# Altium footprint library BMxxB-PASS.PcbLib: 9 footprints
Each footprint in its own frame and in the unit in brackets; x right, y up, seen from the top. Pads: shape width x height; smd on the part's side, far side on the other; paste and mask are expansions set on the pad; w line width, h text height; cw(c..) or ccw(c..) is an arc to the next point about the centre after c.
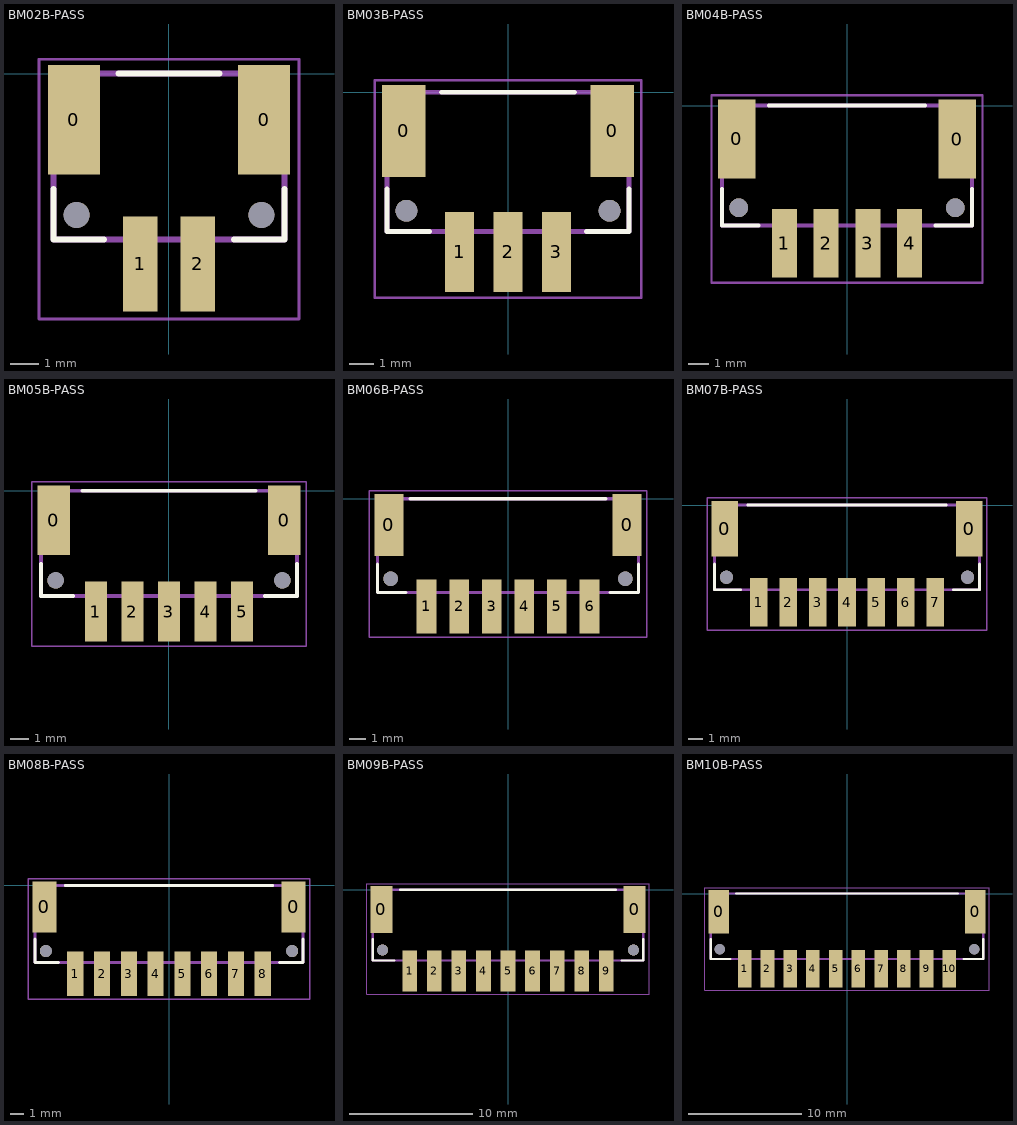
[diagram p0: the footprints below, top view; thin cyan lines are the x and y axes]

## BM02B-PASS [mm]
pads (6):
  rect 1.8x3.8 smd: 0(-3.3,-1.6) 0(3.3,-1.6)
  rect 1.2x3.3 smd: 1(-1,-6.6) 2(1,-6.6)
  round 0.9 hole 0.9: ""(-3.2,-4.9) ""(3.2,-4.9)
Top Overlay:
  lines w0.2: -4,-4 -4,-5.75 -2.25,-5.75 ; -1.75,0 1.75,0 ; 2.25,-5.75 4,-5.75 4,-4
Top Assy:
  lines w0.2: -4,-5.75 4,-5.75 4,0 -4,0 -4,-5.75
Border:
  lines w0.1: -4.5,-8.5 4.5,-8.5 4.5,0.5 -4.5,0.5 -4.5,-8.5
3D body "BM02B-PASS.stp": height 8.92, standoff -0.48, extent -4,-7.5 4,0.02

## BM03B-PASS [mm]
pads (7):
  rect 1.8x3.8 smd: 0(-4.3,-1.6) 0(4.3,-1.6)
  rect 1.2x3.3 smd: 1(-2,-6.6) 2(0,-6.6) 3(2,-6.6)
  round 0.9 hole 0.9 paste+0.9: ""(-4.2,-4.9) ""(4.2,-4.9)
Top Overlay:
  lines w0.2: -5,-4 -5,-5.75 -3.25,-5.75 ; -2.75,0 2.75,0 ; 3.25,-5.75 5,-5.75 5,-4
Top Assy:
  lines w0.2: -5,-5.75 -5,0 5,0 5,-5.75 -5,-5.75
Border:
  lines w0.1: -5.5,-8.5 -5.5,0.5 5.5,0.5 5.5,-8.5 -5.5,-8.5
3D body "BM03B-PASS.stp": height 8.92, standoff -0.48, extent -5,-7.5 5,0.02

## BM04B-PASS [mm]
pads (8):
  rect 1.8x3.8 smd: 0(-5.3,-1.6) 0(5.3,-1.6)
  rect 1.2x3.3 smd: 1(-3,-6.6) 2(-1,-6.6) 3(1,-6.6) 4(3,-6.6)
  round 0.9 hole 0.9: ""(-5.2,-4.9) ""(5.2,-4.9)
Top Overlay:
  lines w0.2: -6,-4 -6,-5.75 -4.25,-5.75 ; -3.75,0 3.75,0 ; 4.25,-5.75 6,-5.75 6,-4
Top Assy:
  lines w0.2: -6,-5.75 6,-5.75 6,0 -6,0 -6,-5.75
Border:
  lines w0.1: -6.5,-8.5 6.5,-8.5 6.5,0.5 -6.5,0.5 -6.5,-8.5
3D body "BM04B-PASS.stp": height 8.92, standoff -0.48, extent -6,-7.5 6,0.02

## BM05B-PASS [mm]
pads (9):
  rect 1.8x3.8 smd: 0(-6.3,-1.6) 0(6.3,-1.6)
  rect 1.2x3.3 smd: 1(-4,-6.6) 2(-2,-6.6) 3(0,-6.6) 4(2,-6.6) 5(4,-6.6)
  round 0.9 hole 0.9 paste+0.9: ""(-6.2,-4.9) ""(6.2,-4.9)
Top Overlay:
  lines w0.2: -7,-4 -7,-5.75 -5.25,-5.75 ; -4.75,0 4.75,0 ; 5.25,-5.75 7,-5.75 7,-4
Top Assy:
  lines w0.2: -7,-5.75 7,-5.75 7,0 -7,0 -7,-5.75
Border:
  lines w0.1: -7.5,-8.5 7.5,-8.5 7.5,0.5 -7.5,0.5 -7.5,-8.5
3D body "BM05B-PASS.stp": height 8.92, standoff -0.48, extent -7,-7.5 7,0.02

## BM06B-PASS [mm]
pads (10):
  rect 1.8x3.8 smd: 0(-7.3,-1.6) 0(7.3,-1.6)
  rect 1.2x3.3 smd: 1(-5,-6.6) 2(-3,-6.6) 3(-1,-6.6) 4(1,-6.6) 5(3,-6.6) 6(5,-6.6)
  round 0.9 hole 0.9: ""(-7.2,-4.9) ""(7.2,-4.9)
Top Overlay:
  lines w0.2: -8,-4 -8,-5.75 -6.25,-5.75 ; -6,0 6,0 ; 6.25,-5.75 8,-5.75 8,-4
Top Assy:
  lines w0.2: -8,-5.75 8,-5.75 8,0 -8,0 -8,-5.75
Border:
  lines w0.1: -8.5,-8.5 8.5,-8.5 8.5,0.5 -8.5,0.5 -8.5,-8.5
3D body "BM06B-PASS.stp": height 8.92, standoff -0.48, extent -8,-7.5 8,0.02

## BM07B-PASS [mm]
pads (11):
  rect 1.8x3.8 smd: 0(-8.3,-1.6) 0(8.3,-1.6)
  rect 1.2x3.3 smd: 1(-6,-6.6) 2(-4,-6.6) 3(-2,-6.6) 4(0,-6.6) 5(2,-6.6) 6(4,-6.6) 7(6,-6.6)
  round 0.9 hole 0.9 paste+0.9: ""(-8.2,-4.9) ""(8.2,-4.9)
Top Overlay:
  lines w0.2: -9,-4 -9,-5.75 -7.25,-5.75 ; -6.75,0 6.75,0 ; 7.25,-5.75 9,-5.75 9,-4
Top Assy:
  lines w0.2: -9,-5.75 9,-5.75 9,0 -9,0 -9,-5.75
Border:
  lines w0.1: -9.5,-8.5 9.5,-8.5 9.5,0.5 -9.5,0.5 -9.5,-8.5
3D body "BM07B-PASS.stp": height 8.92, standoff -0.48, extent -9,-7.5 9,0.02

## BM08B-PASS [mm]
pads (12):
  rect 1.8x3.8 smd: 0(-9.3,-1.6) 0(9.3,-1.6)
  rect 1.2x3.3 smd: 1(-7,-6.6) 2(-5,-6.6) 3(-3,-6.6) 4(-1,-6.6) 5(1,-6.6) 6(3,-6.6) 7(5,-6.6) 8(7,-6.6)
  round 0.9 hole 0.9: ""(-9.2,-4.9) ""(9.2,-4.9)
Top Overlay:
  lines w0.2: -10,-4 -10,-5.75 -8.25,-5.75 ; -7.75,0 7.75,0 ; 8.25,-5.75 10,-5.75 10,-4
Top Assy:
  lines w0.2: -10,-5.75 10,-5.75 10,0 -10,0 -10,-5.75
Border:
  lines w0.1: -10.5,-8.5 10.5,-8.5 10.5,0.5 -10.5,0.5 -10.5,-8.5
3D body "BM08B-PASS.stp": height 8.92, standoff -0.48, extent -10,-7.5 10,0.02

## BM09B-PASS [mm]
pads (13):
  rect 1.8x3.8 smd: 0(-10.3,-1.6) 0(10.3,-1.6)
  rect 1.2x3.3 smd: 1(-8,-6.6) 2(-6,-6.6) 3(-4,-6.6) 4(-2,-6.6) 5(0,-6.6) 6(2,-6.6) 7(4,-6.6) 8(6,-6.6) 9(8,-6.6)
  round 0.9 hole 0.9 paste+0.9: ""(-10.2,-4.9) ""(10.2,-4.9)
Top Overlay:
  lines w0.2: -11,-4 -11,-5.75 -9.25,-5.75 ; -8.75,0 8.75,0 ; 9.25,-5.75 11,-5.75 11,-4
Top Assy:
  lines w0.2: -11,-5.75 -11,0 11,0 11,-5.75 -11,-5.75
Border:
  lines w0.1: -11.5,-8.5 -11.5,0.5 11.5,0.5 11.5,-8.5 -11.5,-8.5
3D body "BM09B-PASS.stp": height 8.92, standoff -0.48, extent -11,-7.5 11,0.02

## BM10B-PASS [mm]
pads (14):
  rect 1.8x3.8 smd: 0(-11.3,-1.6) 0(11.3,-1.6)
  rect 1.2x3.3 smd: 1(-9,-6.6) 2(-7,-6.6) 3(-5,-6.6) 4(-3,-6.6) 5(-1,-6.6) 6(1,-6.6) 7(3,-6.6) 8(5,-6.6) 9(7,-6.6) 10(9,-6.6)
  round 0.9 hole 0.9: ""(-11.2,-4.9) ""(11.2,-4.9)
Top Overlay:
  lines w0.2: -12,-4 -12,-5.75 -10.25,-5.75 ; -9.75,0 9.75,0 ; 10.25,-5.75 12,-5.75 12,-4
Top Assy:
  lines w0.2: -12,-5.75 12,-5.75 12,0 -12,0 -12,-5.75
Border:
  lines w0.1: -12.5,-8.5 12.5,-8.5 12.5,0.5 -12.5,0.5 -12.5,-8.5
3D body "BM10B-PASS.stp": height 8.92, standoff -0.48, extent -12,-7.5 12,0.02